# EAGLE library part 12401598E4#2A (library usb-c)
Usb Jack 3.1, C Type, 24 Pin, Ho
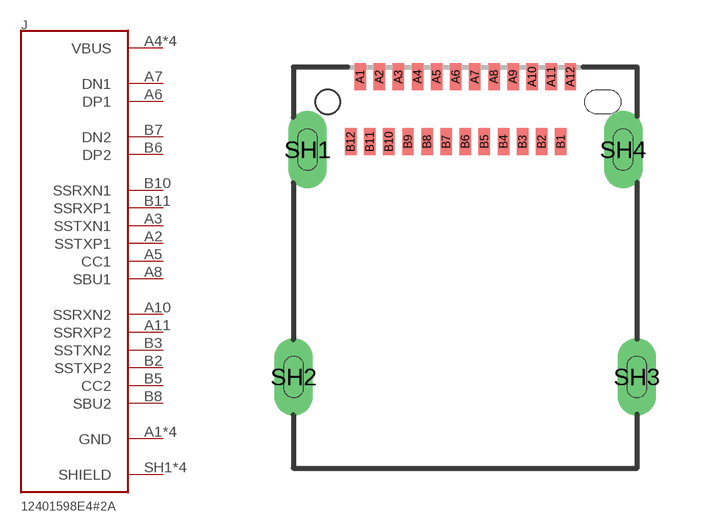
[diagram p0: symbol with the pads of AMPHENOL_12401598E4#2A; footprint AMPHENOL_12401598E4#2A]

Designator prefix J

## 12401598E4#2A (Availability: Unavailable; Description: Usb Type C / Tape & Reel; MF: Amphenol Commercial; MP: 12401598E4#2A; Package: None; Price: None)  [AMPHENOL_12401598E4#2A]
A1  GND  pas
A2  SSTXP1  pas
A3  SSTXN1  pas
A4  VBUS  pas
A5  CC1  pas
A6  DP1  pas
A7  DN1  pas
A8  SBU1  pas
A9  VBUS  pas
A10  SSRXN2  pas
A11  SSRXP2  pas
A12  GND  pas
B1  GND  pas
B2  SSTXP2  pas
B3  SSTXN2  pas
B4  VBUS  pas
B5  CC2  pas
B6  DP2  pas
B7  DN2  pas
B8  SBU2  pas
B9  VBUS  pas
B10  SSRXN1  pas
B11  SSRXP1  pas
B12  GND  pas
SH1  SHIELD  pas
SH2  SHIELD  pas
SH3  SHIELD  pas
SH4  SHIELD  pas

## Footprint AMPHENOL_12401598E4#2A (pad centres in mm)
smd 0.3 x 0.7: A1 -2.75,0.66; A2 -2.25,0.66; A3 -1.75,0.66; A4 -1.25,0.66; A5 -0.75,0.66; A6 -0.25,0.66; A7 0.25,0.66; A8 0.75,0.66; A9 1.25,0.66; A10 1.75,0.66; A11 2.25,0.66; A12 2.75,0.66; B1 2.5,-1.04; B2 2,-1.04; B3 1.5,-1.04; B4 1,-1.04; B5 0.5,-1.04; B6 0,-1.04; B7 -0.5,-1.04; B8 -1,-1.04; B9 -1.5,-1.04; B10 -2,-1.04; B11 -2.5,-1.04; B12 -3,-1.04
drill 0.5 pad 0.8 long: SH1 -4.13,-1.25; SH2 -4.49,-7.2; SH3 4.49,-7.2; SH4 4.13,-1.25
hole 0.65 at -3.6,0